# Altium schematic symbol library FuelCellMonitor.SchLib: 16 symbols
Pins are listed as number, name and electrical type; pins without a type are passive.

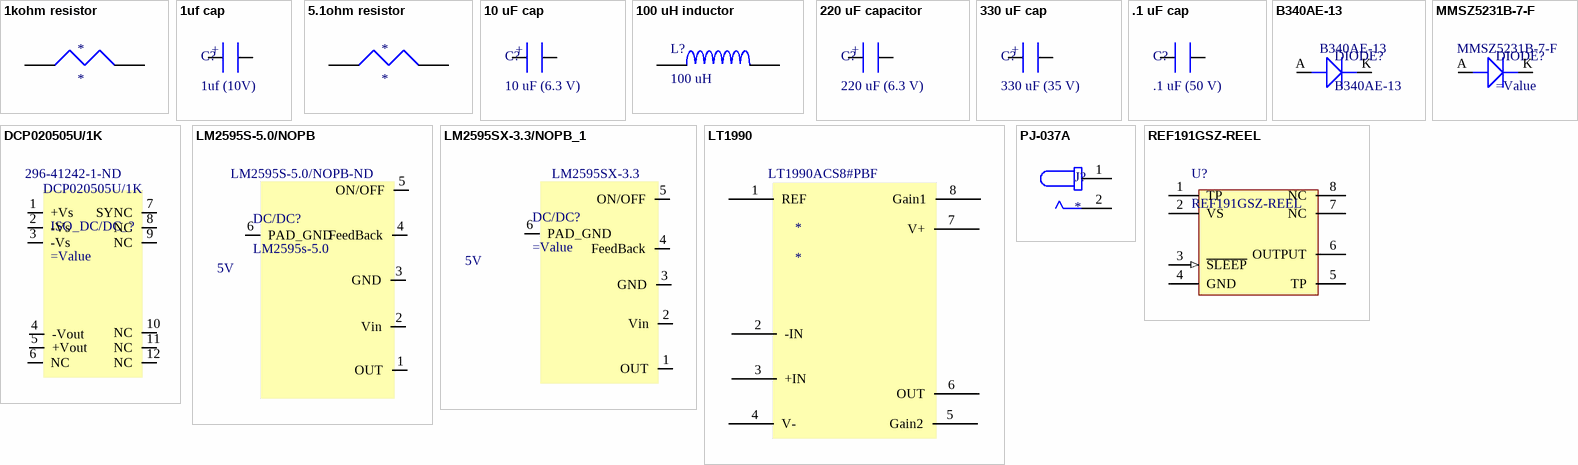
[diagram p0: symbols 1kohm resistor to REF191GSZ-REEL]

## 1kohm resistor
designator *
footprint 1kohm resistor
pins: 1, 2

## 1uf cap
designator C?, comment 1uf (10V)
footprint 1 uF cap
pins: 1 (power), 2 (power)
text: +

## 5.1ohm resistor
designator *
footprint 5.1 ohm resistor
pins: 1, 2

## 10 uF cap
designator C?, comment 10 uF (6.3 V)
footprint 10 uF cap
pins: 1 (power), 2 (power)
text: +

## 100 uH inductor
designator L?, comment 100 uH
footprint 100uH inductor
pins: 1, 2

## 220 uF capacitor
designator C?, comment 220 uF (6.3 V)
footprint 220 uf cap
pins: 1 (power), 2 (power)
text: +

## 330 uF cap
designator C?, comment 330 uF (35 V)
footprint 330uf cap
pins: 1 (power), 2 (power)
text: +

## .1 uF cap
designator C?, comment .1 uF (50 V)
footprint .1uF capacitor
pins: 1 (power), 2 (power)

## B340AE-13
designator DIODE?
Schottky Diode, DO-201, 40V, 3.00A; Manufacturer: STMicroelectronics; Max Surge Current: 80A; Average Rectified Current: 3A; Max Reverse Leakage Current: 2mA; Element Configuration: Single; Polarity: Standard; Forward Voltage: 950mV; Capacitance: 190pF; Supplier 1: Mouser; RoHS: Yes; Category: Rectifier Diodes; Stock 1: 125419; Pricing 1: 1=0.47000, 10=0.38600, 50=0.38600, 100=0.26300, 600=0.19700, 1000=0.19700, 1200=0.14700, 2400=0.12700, 9600=0.11900, 10000=0.11900 (USD); Mount: Through Hole; Case/Package: DO-201AD; Number of Pins: 2; Weight: 0.01lb; Min Operating Temperature: -65°C; Max Operating Temperature: 150°C; Package Quantity: 1; Packaging: Tape and Reel; Max Forward Surge Current (Ifsm): 80A; Voltage Rating (DC): 40V; Current Rating: 3A; Output Current: 3A; Max Reverse Voltage (DC): 40V; Series: -; Forward Current: 3A; Max Reverse Current: 2mA; Max Repetitive Reverse Voltage (Vrrm): 40V; Peak Non-Repetitive Surge Current: 80A; Length: 9.5mm; Width: 5.3mm; Height: 5.3mm; Radiation Hardening: No; Lead Free: Lead Free; RoHS Compliant: Yes; REACH SVHC: No SVHC; ComponentLink1URL: https://datasheet.ciiva.com/1177/1689683-1177129.pdf?src-supplier=Element14; ComponentLink1Description: https://datasheet.ciiva.com/1177/1689683-1177129.pdf?src-supplier=Element14; ComponentLink2URL: https://datasheet.ciiva.com/26339/168275-da-01-en-schottky-barrier-rectif-axial-1n5822-26339005.pdf?src-supplier=Conrad; ComponentLink2Description: https://datasheet.ciiva.com/26339/168275-da-01-en-schottky-barrier-rectif-axial-1n5822-26339005.pdf?src-supplier=Conrad; ComponentLink3URL: https://datasheet.ciiva.com/16303/cd00001626-16303311.pdf?src-supplier=Future+Electronics; ComponentLink3Description: https://datasheet.ciiva.com/16303/cd00001626-16303311.pdf?src-supplier=Future+Electronics; ComponentLink4URL: https://datasheet.ciiva.com/916/cd00001626-916051.pdf?src-supplier=Digi-Key; ComponentLink4Description: https://datasheet.ciiva.com/916/cd00001626-916051.pdf?src-supplier=Digi-Key; ComponentLink5URL: https://datasheet.ciiva.com/916/cd00001626-916050.pdf?src-supplier=Digi-Key; ComponentLink5Description: https://datasheet.ciiva.com/916/cd00001626-916050.pdf?src-supplier=Digi-Key; Supplier Part Number 1: 511-1N5822; Manufacturer Part Number: B340AE-13
footprint B340AE-13
pins: A (power), K (power)

## DCP020505U/1K
designator ISO_DC/DC_?  Supplier Part Number 1: 296-41242-1-ND
Miniature, 2W Isolated Unregulated DC/DC Converters 12-SOP -40 to 85; Manufacturer: Texas Instruments; Manufacturer Part Number: DCP020505U/1K; Number of Outputs: 1; Efficiency: 80%; Max Output Current: 400mA; Max Input Voltage: 5.5V; Min Input Voltage: 4.5V; Voltage - Output 1: 5V; Isolation Voltage: 1kV; Max Power Dissipation: 90mW; Switching Frequency: 400kHz; Max Output Voltage: 5.25V; Min Output Voltage: 4.75V; Quiescent Current: 18mA; Output Type: Fixed; Supplier 1: Digi-Key; RoHS: Yes; Category: Integrated Circuits (ICs); Case/Package: SOP; Number of Pins: 12; Min Operating Temperature: -40°C; Max Operating Temperature: 85°C; Packaging: Tape and Reel; Features: OTP; Package Quantity: 1000; Output Voltage: 5V; Output Current: 400mA; Output Power: 2W; Current - Output 1: 400mA; Max Output Power: 2W; Series: DCP02; Length: 0.71inch; Width: 0.3inch; Height: 0.1inch; Radiation Hardening: No; Lead Free: Lead Free; RoHS Compliant: Yes; ComponentLink1URL: https://datasheet.ciiva.com/2035/dcp020503-2035713.pdf?src-supplier=Digi-Key; ComponentLink1Description: https://datasheet.ciiva.com/2035/dcp020503-2035713.pdf?src-supplier=Digi-Key
footprint DCP020505U - duplicate
pins: 1 +Vs (power), 2 -Vs (power), 3 -Vs (power), 4 -Vout (power), 5 +Vout (power), 6 NC (power), 7 SYNC (power), 8 NC (power), 9 NC (power), 10 NC (power), 11 NC (power), 12 NC (power)

## LM2595S-5.0/NOPB
designator DC/DC?, comment LM2595s-5.0  Output Voltage: 5V  Supplier Part Number 1: LM2595S-5.0/NOPB-ND
SIMPLE SWITCHE Power Converter 150 KHz 1A Step-Down Voltage egulator 5-DDPAK/TO-263; Manufacturer: Texas Instruments; Manufacturer Part Number: LM2595S-5.0/NOPB; Number of Outputs: 1; Efficiency: 82%; Min Input Voltage: 4.5V; Max Input Voltage: 40V; Frequency: 150kHz; Switching Frequency: 173kHz; Quiescent Current: 5mA; Output Type: Fixed; Supplier 1: Digi-Key; RoHS: Yes; Category: Voltage Regulators - Switching; Mount: Surface Mount; Case/Package: TO-263; Number of Pins: 5; Weight: 0.25lb; Min Operating Temperature: -40°C; Max Operating Temperature: 125°C; Output Current: 1A; Package Quantity: 45; Packaging: Rail/Tube; Max Output Current: 1A; Max Supply Voltage: 40V; Min Supply Voltage: 4.5V; Nominal Output Voltage: 5V; Max Output Voltage: 5V; Termination: SMD/SMT; Length: 10.16mm; Width: 8.64mm; Height: 4.57mm; Radiation Hardening: No; Lead Free: Contains Lead; RoHS Compliant: Yes; REACH SVHC: No SVHC; ComponentLink1URL: https://datasheet.ciiva.com/14150/eanatsemico-schaltr-lm2595-en-14150687.pdf?src-supplier=Distrelec; ComponentLink1Description: https://datasheet.ciiva.com/14150/eanatsemico-schaltr-lm2595-en-14150687.pdf?src-supplier=Distrelec; ComponentLink2URL: https://datasheet.ciiva.com/15112/getdatasheetpartid-89913-15112836.pdf?src-supplier=Verical; ComponentLink2Description: https://datasheet.ciiva.com/15112/getdatasheetpartid-89913-15112836.pdf?src-supplier=Verical; ComponentLink3URL: https://datasheet.ciiva.com/25775/1771567-25775403.pdf?src-supplier=Farnell; ComponentLink3Description: https://datasheet.ciiva.com/25775/1771567-25775403.pdf?src-supplier=Farnell; ComponentLink4URL: https://datasheet.ciiva.com/22746/1771567-22746709.pdf?src-supplier=Element14; ComponentLink4Description: https://datasheet.ciiva.com/22746/1771567-22746709.pdf?src-supplier=Element14; ComponentLink5URL: https://datasheet.ciiva.com/3219/lm2595-3219977.pdf?src-supplier=Avnet; ComponentLink5Description: https://datasheet.ciiva.com/3219/lm2595-3219977.pdf?src-supplier=Avnet
footprint LM2595s-5.0
pins: 1 OUT (power), 2 Vin (power), 3 GND (power), 4 FeedBack (power), 5 ON/OFF (power), 6 PAD_GND (power)

## LM2595SX-3.3/NOPB_1
designator DC/DC?  Output Voltage: 5V
SIMPLE SWITCHE Power Converter 150 KHz 1A Step-Down Voltage egulator 5-DDPAK/TO-263; Manufacturer: Texas Instruments; Manufacturer Part Number: LM2595S-5.0/NOPB; Number of Outputs: 1; Efficiency: 82%; Min Input Voltage: 4.5V; Max Input Voltage: 40V; Frequency: 150kHz; Switching Frequency: 173kHz; Quiescent Current: 5mA; Output Type: Fixed; Supplier 1: Digi-Key; RoHS: Yes; Category: Voltage Regulators - Switching; Mount: Surface Mount; Case/Package: TO-263; Number of Pins: 5; Weight: 0.25lb; Min Operating Temperature: -40°C; Max Operating Temperature: 125°C; Output Current: 1A; Package Quantity: 45; Packaging: Rail/Tube; Max Output Current: 1A; Max Supply Voltage: 40V; Min Supply Voltage: 4.5V; Nominal Output Voltage: 5V; Max Output Voltage: 5V; Termination: SMD/SMT; Length: 10.16mm; Width: 8.64mm; Height: 4.57mm; Radiation Hardening: No; Lead Free: Contains Lead; RoHS Compliant: Yes; REACH SVHC: No SVHC; ComponentLink1URL: https://datasheet.ciiva.com/14150/eanatsemico-schaltr-lm2595-en-14150687.pdf?src-supplier=Distrelec; ComponentLink1Description: https://datasheet.ciiva.com/14150/eanatsemico-schaltr-lm2595-en-14150687.pdf?src-supplier=Distrelec; ComponentLink2URL: https://datasheet.ciiva.com/15112/getdatasheetpartid-89913-15112836.pdf?src-supplier=Verical; ComponentLink2Description: https://datasheet.ciiva.com/15112/getdatasheetpartid-89913-15112836.pdf?src-supplier=Verical; ComponentLink3URL: https://datasheet.ciiva.com/25775/1771567-25775403.pdf?src-supplier=Farnell; ComponentLink3Description: https://datasheet.ciiva.com/25775/1771567-25775403.pdf?src-supplier=Farnell; ComponentLink4URL: https://datasheet.ciiva.com/22746/1771567-22746709.pdf?src-supplier=Element14; ComponentLink4Description: https://datasheet.ciiva.com/22746/1771567-22746709.pdf?src-supplier=Element14; ComponentLink5URL: https://datasheet.ciiva.com/3219/lm2595-3219977.pdf?src-supplier=Avnet; ComponentLink5Description: https://datasheet.ciiva.com/3219/lm2595-3219977.pdf?src-supplier=Avnet
footprint LM2595s-3.3
pins: 1 OUT (power), 2 Vin (power), 3 GND (power), 4 FeedBack (power), 5 ON/OFF (power), 6 PAD_GND (power)
text: LM2595SX-3.3

## LT1990
designator *
footprint LT1990ACS8
footprint LT1990ACS8
pins: 1 REF, 2 -IN, 3 +IN, 4 V-, 5 Gain2, 6 OUT, 7 V+, 8 Gain1
text: LT1990ACS8#PBF

## MMSZ5231B-7-F
designator DIODE?  Manufacturer Part Number: MMSZ5231B-7-F
Zener diode; Manufacturer: STMicroelectronics; Max Surge Current: 80A; Average Rectified Current: 3A; Max Reverse Leakage Current: 2mA; Element Configuration: Single; Polarity: Standard; Voltage Rating (DC): 40V; Forward Voltage: 950mV; Capacitance: 190pF; Supplier 1: Mouser; RoHS: Yes; Category: Rectifier Diodes; Stock 1: 125419; Pricing 1: 1=0.47000, 10=0.38600, 50=0.38600, 100=0.26300, 600=0.19700, 1000=0.19700, 1200=0.14700, 2400=0.12700, 9600=0.11900, 10000=0.11900 (USD); Mount: Through Hole; Case/Package: DO-201AD; Number of Pins: 2; Weight: 0.01lb; Min Operating Temperature: -65°C; Max Operating Temperature: 150°C; Package Quantity: 1; Packaging: Tape and Reel; Max Forward Surge Current (Ifsm): 80A; Current Rating: 3A; Output Current: 3A; Max Reverse Voltage (DC): 40V; Series: -; Forward Current: 3A; Max Reverse Current: 2mA; Max Repetitive Reverse Voltage (Vrrm): 40V; Peak Non-Repetitive Surge Current: 80A; Length: 9.5mm; Width: 5.3mm; Height: 5.3mm; Radiation Hardening: No; Lead Free: Lead Free; RoHS Compliant: Yes; REACH SVHC: No SVHC; ComponentLink1URL: https://datasheet.ciiva.com/1177/1689683-1177129.pdf?src-supplier=Element14; ComponentLink1Description: https://datasheet.ciiva.com/1177/1689683-1177129.pdf?src-supplier=Element14; ComponentLink2URL: https://datasheet.ciiva.com/26339/168275-da-01-en-schottky-barrier-rectif-axial-1n5822-26339005.pdf?src-supplier=Conrad; ComponentLink2Description: https://datasheet.ciiva.com/26339/168275-da-01-en-schottky-barrier-rectif-axial-1n5822-26339005.pdf?src-supplier=Conrad; ComponentLink3URL: https://datasheet.ciiva.com/16303/cd00001626-16303311.pdf?src-supplier=Future+Electronics; ComponentLink3Description: https://datasheet.ciiva.com/16303/cd00001626-16303311.pdf?src-supplier=Future+Electronics; ComponentLink4URL: https://datasheet.ciiva.com/916/cd00001626-916051.pdf?src-supplier=Digi-Key; ComponentLink4Description: https://datasheet.ciiva.com/916/cd00001626-916051.pdf?src-supplier=Digi-Key; ComponentLink5URL: https://datasheet.ciiva.com/916/cd00001626-916050.pdf?src-supplier=Digi-Key; ComponentLink5Description: https://datasheet.ciiva.com/916/cd00001626-916050.pdf?src-supplier=Digi-Key; Supplier Part Number 1: 511-1N5822
footprint MMSZ5231B-7-F Zener diode
pins: A (power), K (power)

## PJ-037A
designator J?
2.0 mm Center Pin, 2.5 A, Right Angle, Through Hole, Dc Power Jack Connector; MP: PJ-037A; Value: *; Price: None; Availability: Unavailable; Package: None
footprint CUI_PJ-037A
pins: 1, 2

## REF191GSZ-REEL
designator U?
Precision Micropower, Low Dropout Voltage Reference, 2.048 V Output, 2.3 to 15 V Supply, Industrial, 8-pin SOIC (R-8), Reel; Manufacturer: Analog Devices; Vout: 2.048V; Ref Out TC (ppm/C): 10; Mounting Technology: Surface Mount; ComponentLink3URL: http://www.analog.com/static/imported-files/packages/PKG_PDF/SOIC_Narrow%20(R)/R_8.pdf; PackageDescription: 8-Pin Standard Small Outline Package, Body 4.9 x 3.9 mm, Pitch 1.27 mm; PackageVersion: 060506-A, 06/2006; ComponentLink1Description: Manufacturer URL; Code_JEDEC: MS-012-AA; ComponentLink2URL: http://www.analog.com/static/imported-files/data_sheets/REF19xSeries.pdf; Operating Temp Range: -40 to 85 degC; PartNumber: REF191GSZ-REEL; Packing: Reel; ComponentLink3Description: Package Specification; ComponentLink4Description: URL Link1; PackageReference: R-8; ComponentLink1URL: http://www.analog.com/en/index.html; ComponentLink4URL: Product URL:http://www.analog.com/en/special-linear-functions/voltage-references/ref191/products/product.html; DatasheetVersion: Rev. L; ComponentLink2Description: Datasheet
footprint ADI-R-8_N (SOIC, 8-Leads, Body 4.9x3.9mm, Pitch 1.27mm, IPC Medium Density)
pins: 1 TP, 2 VS (power), 3 ~{SLEEP} (in), 4 GND (power), 5 TP, 6 OUTPUT (hiz), 7 NC, 8 NC